# Altium schematic symbol library SCH - POWER - SWITCHMODE - MPS MPQ3426.SchLib: 1 symbol
Pins are listed as number, name and electrical type; pins without a type are passive.

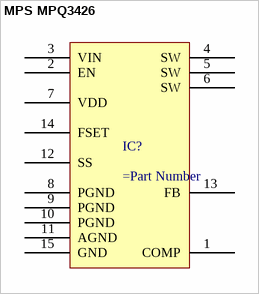
[diagram p0: symbol MPS MPQ3426]

## MPS MPQ3426
designator IC?
pins: 1 COMP, 2 EN, 3 VIN, 4 SW, 5 SW, 6 SW, 7 VDD, 8 PGND, 9 PGND, 10 PGND, 11 AGND, 12 SS, 13 FB, 14 FSET, 15 GND